# Altium footprint library RESAD1000W55L680D260.PcbLib: 1 footprints
Each footprint in its own frame and in the unit in brackets; x right, y up, seen from the top. Pads: shape width x height; smd on the part's side, far side on the other; paste and mask are expansions set on the pad; w line width, h text height; cw(c..) or ccw(c..) is an arc to the next point about the centre after c.
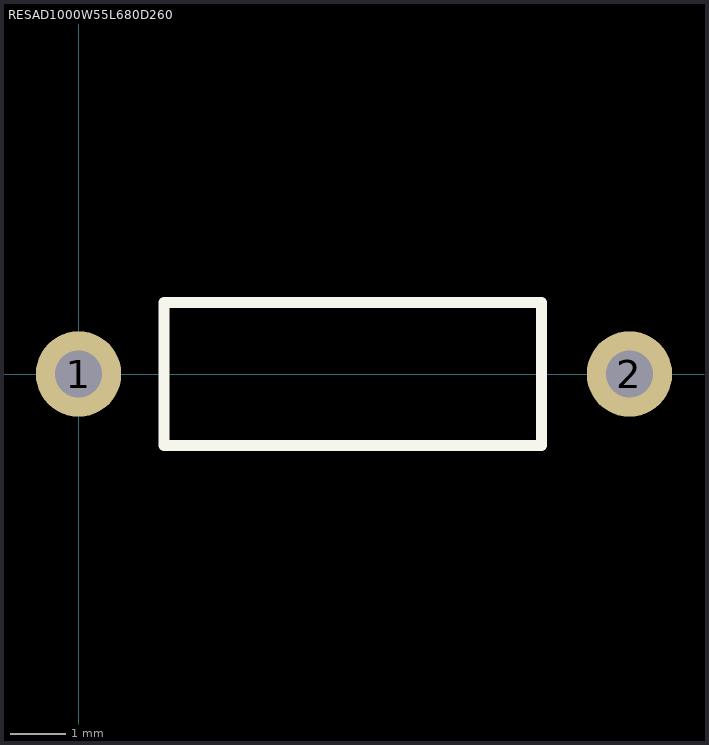
[diagram p0: the footprint, top view; thin cyan lines are the x and y axes]

## RESAD1000W55L680D260 [mm] "Resistor Lead Spacing 10mm Len 6.8mm Dia 2.6mm"
height 3
pads (2):
  round 1.55 hole 0.85: 1(0,0) 2(10,0)
Top Overlay:
  lines w0.2: 1.55,-1.3 1.55,0 1.55,1.3 8.4,1.3 8.4,-1.3 1.55,-1.3
3D body: height 3.29, standoff 0.7, extent 1.6,-1.3 8.4,1.295